# Altium footprint library ADA4891-1.PcbLib: 3 footprints
Each footprint in its own frame and in the unit in brackets; x right, y up, seen from the top. Pads: shape width x height; smd on the part's side, far side on the other; paste and mask are expansions set on the pad; w line width, h text height; cw(c..) or ccw(c..) is an arc to the next point about the centre after c.
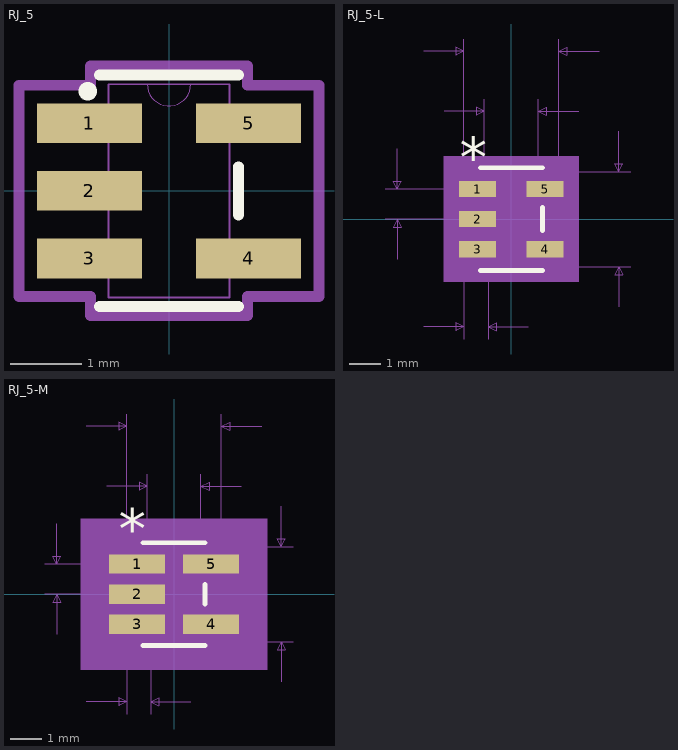
[diagram p0: the footprints below, top view; thin cyan lines are the x and y axes]

## RJ_5 [mil]
pads (5):
  rect 58x22 smd paste+0 mask+0: 1(-44,37.4) 2(-44,0) 3(-44,-37.4) 4(44,-37.4) 5(44,37.4)
Top Overlay:
  circle w10: c-45,55 r0.1
  lines w6: -38.5,-64 38.5,-64 ; -38.5,64 38.5,64 ; 38.5,-13.3 38.5,13.3
Mechanical 13:
  lines w0: -12,59 ccw(c0,59) 12,59
  lines w1: -59,-47.4 -59,-27.4 -33.5,-27.4 -33.5,-47.4 -59,-47.4 ; -59,-10 -59,10 -33.5,10 -33.5,-10 -59,-10 ; -59,27.4 -59,47.4 -33.5,47.4 -33.5,27.4 -59,27.4 ; -33.5,-59 33.5,-59 33.5,59 -33.5,59 -33.5,-59 ; 33.5,-47.4 33.5,-27.4 59,-27.4 59,-47.4 33.5,-47.4 ; 33.5,27.4 33.5,47.4 59,47.4 59,27.4 33.5,27.4
Mechanical 15:
  lines w6: -83,-58.4 -43.5,-58.4 -43.5,-69 43.5,-69 43.5,-58.4 83,-58.4 83,58.4 43.5,58.4 43.5,69 -43.5,69 -43.5,58.4 -83,58.4 -83,-58.4
3D body "RJ_5.step": height 57.09, standoff 0, extent -59.01,-59.01 59.02,59.02

## RJ_5-L [mil]
pads (5):
  rect 46x20 smd paste+0 mask+0: 1(-42,37.4) 2(-42,0) 3(-42,-37.4) 4(42,-37.4) 5(42,37.4)
Top Overlay:
  lines w6: -38.5,-64 38.5,-64 ; -38.5,64 38.5,64 ; 38.5,-14.3 38.5,14.3
  text "*" at -64.5,52.4 h50
Mechanical 5:
  region: 84,-78 -84,-78 -84,78 84,78
Mechanical 7:
  lines w1: -157,0 -42,0 ; -157,37.4 -42,37.4 ; -142,-50 -142,0 ; -142,87.4 -142,37.4 ; -109,-134 -59,-134 ; -109,209 -59,209 ; -83.5,134 -33.5,134 ; -59,-149 -59,0 -59,224 ; -33.5,0 -33.5,149 ; -29,-149 -29,0 ; 0,-59 148.5,-59 ; 0,59 148.5,59 ; 21,-134 -29,-134 ; 33.5,0 33.5,149 ; 59,0 59,224 ; 83.5,134 33.5,134 ; 109,209 59,209 ; 133.5,-109 133.5,-59 ; 133.5,109 133.5,59 ; -142,0 -147,-10 -137,-10 -142,0 ; -142,37.4 -147,47.4 -137,47.4 -142,37.4 ; -59,-134 -69,-129 -69,-139 -59,-134 ; -59,209 -69,214 -69,204 -59,209 ; -33.5,134 -43.5,139 -43.5,129 -33.5,134 ; -29,-134 -19,-129 -19,-139 -29,-134 ; 33.5,134 43.5,139 43.5,129 33.5,134 ; 59,209 69,214 69,204 59,209 ; 133.5,-59 128.5,-69 138.5,-69 133.5,-59 ; 133.5,59 128.5,69 138.5,69 133.5,59
  text "Default Padstyle: RX46Y20D0T" at -350,-259 h50
  text "Pin 1 Padstyle: RX46Y20D0T" at -325,-319 h50
  text "Alt 1 Padstyle: OX60Y90D30P" at -337.5,-499 h50
  text "Alt 2 Padstyle: OX90Y60D30P" at -337.5,-559 h50
  text "0.067in/1.702mm" at -93.75,154 h25
  text "0.118in/2.997mm" at -93.75,229 h25
  text "0.118in/2.997mm" at 153.5,-12.5 h25
  text "0.037in/0.95mm" at -337,6.2 h25
  text "0.022in/0.559mm" at -137.75,-179 h25
Mechanical 13:
  lines w0: -12,59 ccw(c0,59) 12,59
  lines w1: -59,-47.4 -59,-27.4 -33.5,-27.4 -33.5,-47.4 -59,-47.4 ; -59,-10 -59,10 -33.5,10 -33.5,-10 -59,-10 ; -59,27.4 -59,47.4 -33.5,47.4 -33.5,27.4 -59,27.4 ; -33.5,-59 33.5,-59 33.5,59 -33.5,59 -33.5,-59 ; 33.5,-47.4 33.5,-27.4 59,-27.4 59,-47.4 33.5,-47.4 ; 33.5,27.4 33.5,47.4 59,47.4 59,27.4 33.5,27.4
  text "*" at -36,14.4 h50
Mechanical 15:
  region: 37.5,-63 -37.5,-63 -37.5,-51.4 -69,-51.4 -69,51.4 -37.5,51.4 -37.5,63 37.5,63 37.5,51.4 69,51.4 69,-51.4 37.5,-51.4
  lines w6: -69,-51.4 -37.5,-51.4 -37.5,-63 37.5,-63 37.5,-51.4 69,-51.4 69,51.4 37.5,51.4 37.5,63 -37.5,63 -37.5,51.4 -69,51.4 -69,-51.4
3D body: height 10, standoff 0, extent 0,0 10,10

## RJ_5-M [mil]
pads (5):
  rect 70x24 smd paste+0 mask+0: 1(-46,37.4) 2(-46,0) 3(-46,-37.4) 4(46,-37.4) 5(46,37.4)
Top Overlay:
  lines w6: -38.5,-64 38.5,-64 ; -38.5,64 38.5,64 ; 38.5,-12.3 38.5,12.3
  text "*" at -68.5,56.4 h50
Mechanical 5:
  region: 116,-94 -116,-94 -116,94 116,94
Mechanical 7:
  lines w1: -161,0 -46,0 ; -161,37.4 -46,37.4 ; -146,-50 -146,0 ; -146,87.4 -146,37.4 ; -109,-134 -59,-134 ; -109,209 -59,209 ; -83.5,134 -33.5,134 ; -59,-149 -59,0 -59,224 ; -33.5,0 -33.5,149 ; -29,-149 -29,0 ; 0,-59 148.5,-59 ; 0,59 148.5,59 ; 21,-134 -29,-134 ; 33.5,0 33.5,149 ; 59,0 59,224 ; 83.5,134 33.5,134 ; 109,209 59,209 ; 133.5,-109 133.5,-59 ; 133.5,109 133.5,59 ; -146,0 -151,-10 -141,-10 -146,0 ; -146,37.4 -151,47.4 -141,47.4 -146,37.4 ; -59,-134 -69,-129 -69,-139 -59,-134 ; -59,209 -69,214 -69,204 -59,209 ; -33.5,134 -43.5,139 -43.5,129 -33.5,134 ; -29,-134 -19,-129 -19,-139 -29,-134 ; 33.5,134 43.5,139 43.5,129 33.5,134 ; 59,209 69,214 69,204 59,209 ; 133.5,-59 128.5,-69 138.5,-69 133.5,-59 ; 133.5,59 128.5,69 138.5,69 133.5,59
  text "Default Padstyle: RX70Y24D0T" at -350,-259 h50
  text "Pin 1 Padstyle: RX70Y24D0T" at -325,-319 h50
  text "Alt 1 Padstyle: OX60Y90D30P" at -337.5,-499 h50
  text "Alt 2 Padstyle: OX90Y60D30P" at -337.5,-559 h50
  text "0.067in/1.702mm" at -93.75,154 h25
  text "0.118in/2.997mm" at -93.75,229 h25
  text "0.118in/2.997mm" at 153.5,-12.5 h25
  text "0.037in/0.95mm" at -341,6.2 h25
  text "0.022in/0.559mm" at -137.75,-179 h25
Mechanical 13:
  lines w0: -12,59 ccw(c0,59) 12,59
  lines w1: -59,-47.4 -59,-27.4 -33.5,-27.4 -33.5,-47.4 -59,-47.4 ; -59,-10 -59,10 -33.5,10 -33.5,-10 -59,-10 ; -59,27.4 -59,47.4 -33.5,47.4 -33.5,27.4 -59,27.4 ; -33.5,-59 33.5,-59 33.5,59 -33.5,59 -33.5,-59 ; 33.5,-47.4 33.5,-27.4 59,-27.4 59,-47.4 33.5,-47.4 ; 33.5,27.4 33.5,47.4 59,47.4 59,27.4 33.5,27.4
  text "*" at -36,18.4 h50
Mechanical 15:
  region: 53.5,-79 -53.5,-79 -53.5,-69.4 -101,-69.4 -101,69.4 -53.5,69.4 -53.5,79 53.5,79 53.5,69.4 101,69.4 101,-69.4 53.5,-69.4
  lines w6: -101,-69.4 -53.5,-69.4 -53.5,-79 53.5,-79 53.5,-69.4 101,-69.4 101,69.4 53.5,69.4 53.5,79 -53.5,79 -53.5,69.4 -101,69.4 -101,-69.4
3D body: height 10, standoff 0, extent 0,0 10,10